# Altium schematic symbol library SCH - SWITCH - NIDEC COPAL CF-LD.SCHLIB: 1 symbol
Pins are listed as number, name and electrical type; pins without a type are passive.

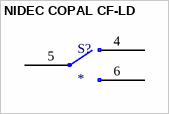
[diagram p0: symbol NIDEC COPAL CF-LD]

## NIDEC COPAL CF-LD
designator S?
pins: 4, 5, 6